# Altium footprint library MELF.PcbLib: 1 footprints
Each footprint in its own frame and in the unit in brackets; x right, y up, seen from the top. Pads: shape width x height; smd on the part's side, far side on the other; paste and mask are expansions set on the pad; w line width, h text height; cw(c..) or ccw(c..) is an arc to the next point about the centre after c.
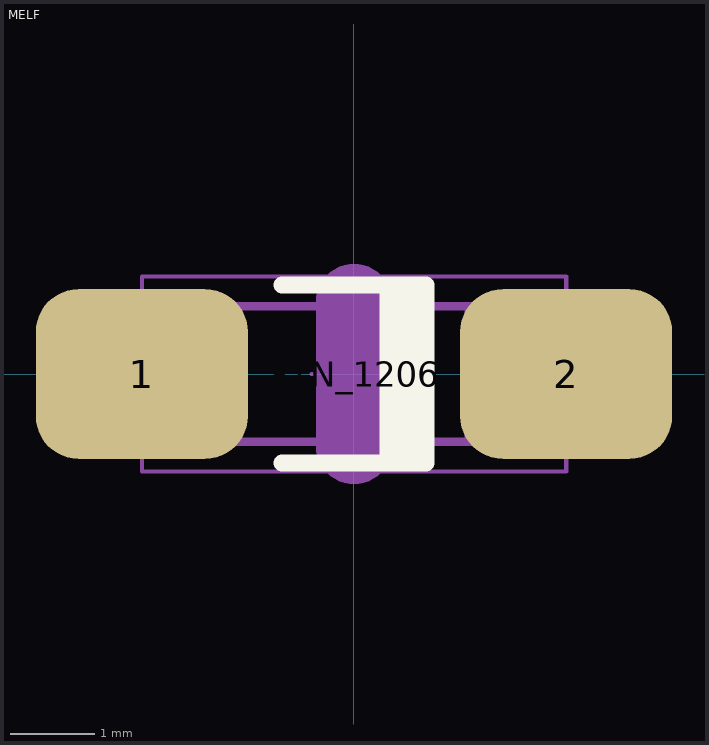
[diagram p0: the footprint, top view; thin cyan lines are the x and y axes]

## MELF [mm] "MELF SMD Diod"
height 2.5
pads (3):
  rrect50% 2.5x2 smd: 1(-2.5,0) 2(2.5,0)
  oval 0.9x2.6 on Mech2 mask+0: STN_1206(0,0)
Top Overlay:
  region: 0.85,1 0.3,1 0.3,-1 0.85,-1
  lines w0.2: -0.85,-1.05 0.85,-1.05 0.85,1.05 -0.85,1.05
Mechanical 14:
  lines w0.1: 1.353,-0.8 1.353,0.8 ; 1.428,-0.8 1.428,0.8 ; 1.503,-0.8 1.503,0.8 ; 1.578,-0.8 1.578,0.8 ; 1.653,-0.8 1.653,0.8 ; 1.728,-0.8 1.728,0.8 ; 1.803,-0.8 1.803,0.8 ; -1.85,-0.8 1.85,-0.8 1.85,0.8 -1.85,0.8 -1.85,-0.8
Mechanical 15:
  lines w0.05: -0.5,0 0.5,0 ; 0,-0.5 0,0.5 ; -2.5,-1.15 2.5,-1.15 2.5,1.15 -2.5,1.15 -2.5,-1.15
3D body "DO-213AB-RED.stp": height 2.59, standoff 0, extent -2.6,-1.294 2.6,1.294